# Altium footprint library ArduinoPcbLib.PcbLib: 26 footprints (part 2 of 2)
Each footprint in its own frame and in the unit in brackets; x right, y up, seen from the top. Pads: shape width x height; smd on the part's side, far side on the other; paste and mask are expansions set on the pad; w line width, h text height; cw(c..) or ccw(c..) is an arc to the next point about the centre after c.
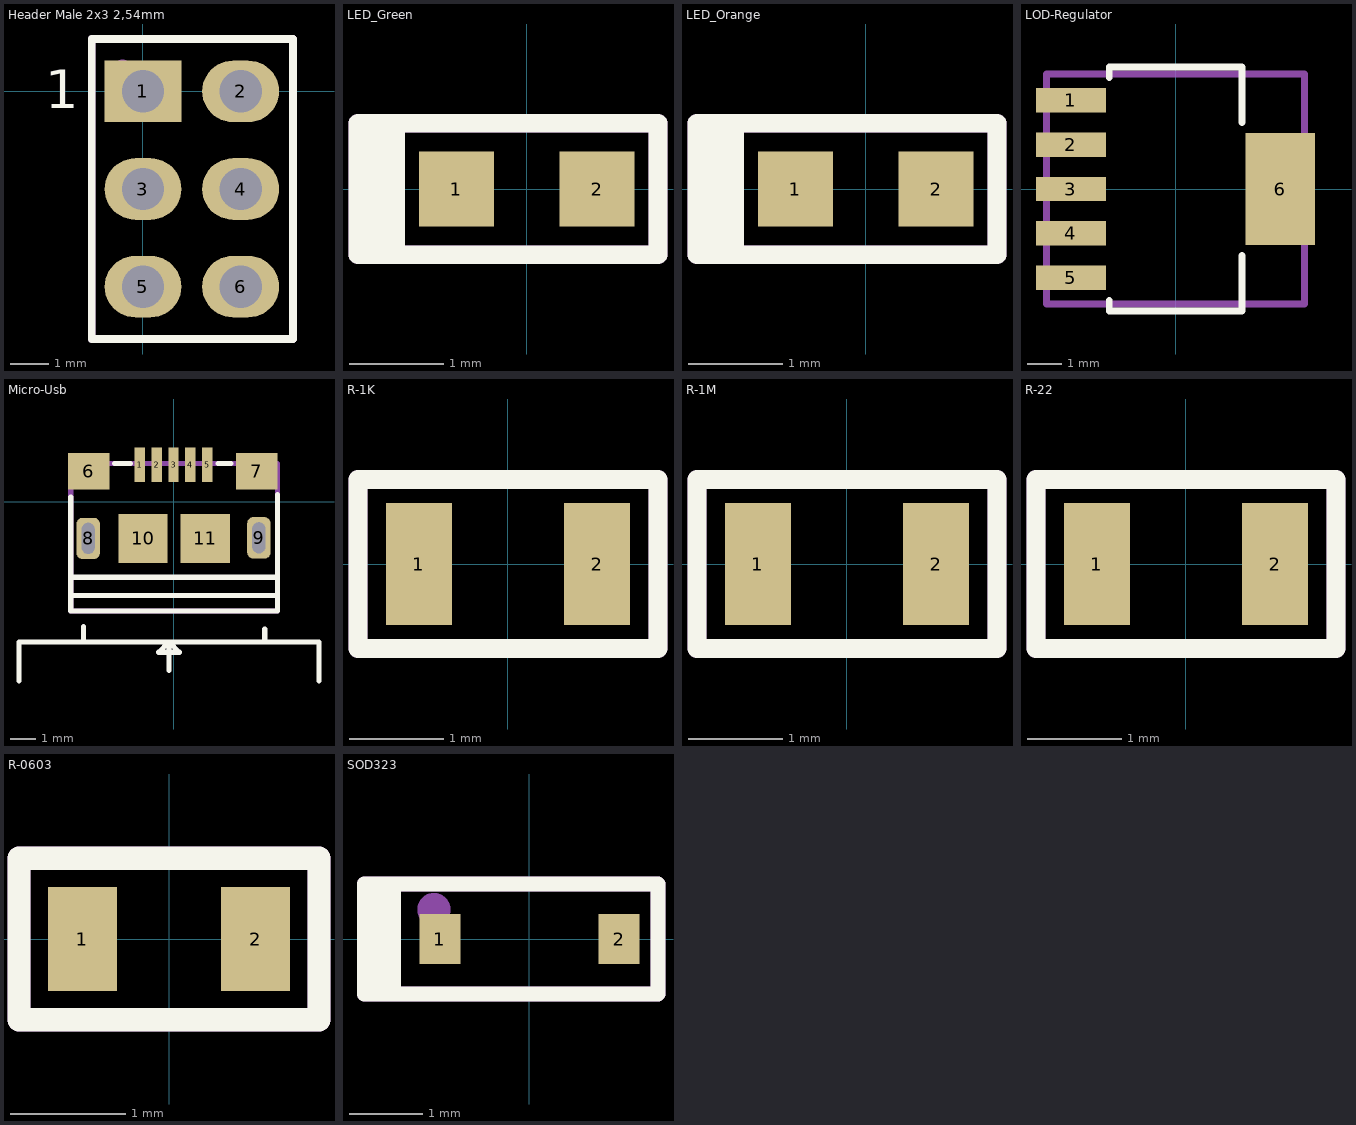
[diagram p1: the footprints below, top view; thin cyan lines are the x and y axes]

## Header Male 2x3 2,54mm [mm]
pads (6):
  rect 2x1.6 hole 1.1: 1(0,0)
  oval 2x1.6 hole 1.1: 2(2.54,0) 3(0,-2.54) 4(2.54,-2.54) 5(0,-5.08) 6(2.54,-5.08)
Top Overlay:
  lines w0.2: -1.33,-6.44 3.9,-6.44 3.9,1.36 -1.33,1.36 -1.33,-6.44
  text "1" at -2.546,-0.446 h1
Mechanical 29:
  circle w0.3: c-0.53,0.56 r0.112
  lines w0.2: -1.33,-6.44 3.9,-6.44 3.9,1.36 -1.33,1.36 -1.33,-6.44
  text "'.Designator'" at -1.476,-3.178 h1.52
3D body "User Library-2x3 TH Pitch 2_54mm.STEP": height 9.21, standoff -3.49, extent -1.27,-6.35 3.81,1.27

## LED_Green [mm]
pads (2):
  rect 0.8x0.8 smd: 1(-0.75,0) 2(0.75,0)
Top Overlay:
  rectangle: -1.8,-0.8 -1.3,0.8
  lines w0.2: -1.8,-0.7 -1.8,0.7 1.4,0.7 1.4,-0.7 -1.8,-0.7
Mechanical 29:
  rectangle: -1.8,-0.8 -1.3,0.8
  lines w0.2: -1.8,-0.7 -1.8,0.7 1.4,0.7 1.4,-0.7 -1.8,-0.7
  text "'.Designator'" at -1.1,-0.3 h0.6
3D body "User Library-SMD LED 0603.step": height 0.4, standoff 0.01, extent -0.8,-0.4 0.8,0.4

## LED_Orange [mm]
pads (2):
  rect 0.8x0.8 smd: 1(-0.75,0) 2(0.75,0)
Top Overlay:
  rectangle: -1.8,-0.8 -1.3,0.8
  lines w0.2: -1.8,-0.7 1.4,-0.7 1.4,0.7 -1.8,0.7 -1.8,-0.7
Mechanical 29:
  rectangle: -1.8,-0.8 -1.3,0.8
  lines w0.2: -1.8,-0.7 1.4,-0.7 1.4,0.7 -1.8,0.7 -1.8,-0.7
  text "'.Designator'" at -1.1,-0.3 h0.6
3D body "User Library-0603 LED_ora.step": height 0.71, standoff 0.01, extent -0.8,-0.4 0.8,0.4

## LOD-Regulator [mm]
pads (6):
  rect 2x0.7 smd: 1(-3,2.54) 2(-3,1.27) 3(-3,0) 4(-3,-1.27) 5(-3,-2.54)
  rect 2x3.2 smd: 6(3,0)
Top Overlay:
  lines w0.2: -1.9,-3.2 -1.9,-3.5 1.9,-3.5 1.9,-1.9 ; -1.9,3.2 -1.9,3.5 1.9,3.5 1.9,1.9
Mechanical 29:
  lines w0.2: -3.7,-3.3 -3.7,3.3 3.7,3.3 3.7,-3.3 -3.7,-3.3
  text "'.Designator'" at -2.746,-0.738 h1.52
3D body "User Library-TPS73701DCQ.step": height 1.78, standoff -0.02, extent -3.631,-3.275 3.63,3.275

## Micro-Usb [mm]
pads (11):
  rect 0.4x1.35 smd mask+0.05: 1(-1.3,1.425) 2(-0.65,1.425) 3(0,1.425) 4(0.65,1.425) 5(1.3,1.425)
  rect 1.6x1.4 smd mask+0.05: 6(-3.275,1.175) 7(3.225,1.175)
  rrect50% 0.9x1.6 hole 0.5 slot 1.2 at 90 deg mask+0.05: 8(-3.3,-1.425) 9(3.3,-1.4)
  rect 1.9x1.9 smd mask+0.05: 10(-1.175,-1.425) 11(1.225,-1.425)
Top Overlay:
  lines w0.2: -5.975,-6.925 -5.975,-6.725 -5.975,-5.425 5.625,-5.425 5.625,-6.525 5.625,-6.925 ; -3.975,-2.925 4.025,-2.925 ; -3.975,0.175 -3.975,-4.225 4.025,-4.225 4.025,0.275 ; -3.475,-5.425 -3.475,-4.825 ; -2.275,1.475 -1.675,1.475 ; -0.275,-5.425 -0.175,-5.425 ; -0.175,-6.525 -0.175,-5.425 ; 0.025,-3.625 -3.975,-3.625 4.025,-3.625 ; 1.725,1.475 2.225,1.475 ; 3.525,-5.425 3.525,-4.925 ; -0.175,-5.425 -0.575,-5.825 0.225,-5.825 -0.175,-5.425
Mechanical 29:
  lines w0.2: -3.975,-4.225 -3.975,1.475 4.025,1.475 4.025,-4.225 -3.975,-4.225
  text "'.Designator'" at -2.721,-1.763 h1.52
3D body "10118193-0001lfc.stp": height 2.87, standoff -0.73, extent -3.928,-4.211 3.928,1.45

## R-1K [mm]
pads (2):
  rect 0.7x1.3 smd: 1(-0.95,0) 2(0.95,0)
Top Overlay:
  lines w0.2: -1.6,-0.9 -1.6,0.9 1.6,0.9 1.6,-0.9 -1.6,-0.9
Mechanical 29:
  lines w0.2: -1.6,-0.9 -1.6,0.9 1.6,0.9 1.6,-0.9 -1.6,-0.9
  text "'.Designator'" at -1.1,-0.3 h0.6
3D body "User Library-CR2012-0805.step": height 0.61, standoff 0.01, extent -1,-0.625 1,0.625

## R-1M [mm]
pads (2):
  rect 0.7x1.3 smd: 1(-0.95,0) 2(0.95,0)
Top Overlay:
  lines w0.2: -1.6,-0.9 -1.6,0.9 1.6,0.9 1.6,-0.9 -1.6,-0.9
Mechanical 29:
  lines w0.2: -1.6,-0.9 -1.6,0.9 1.6,0.9 1.6,-0.9 -1.6,-0.9
  text "'.Designator'" at -1.1,-0.3 h0.6
3D body "User Library-CR2012-0805.step": height 0.61, standoff 0.01, extent -1,-0.625 1,0.625

## R-22 [mm]
pads (2):
  rect 0.7x1.3 smd: 1(-0.95,0) 2(0.95,0)
Top Overlay:
  lines w0.2: -1.6,-0.9 1.6,-0.9 1.6,0.9 -1.6,0.9 -1.6,-0.9
Mechanical 29:
  lines w0.2: -1.6,-0.9 1.6,-0.9 1.6,0.9 -1.6,0.9 -1.6,-0.9
  text "'.Designator'" at -1.1,-0.3 h0.6
3D body "User Library-CR2012-0805.step": height 0.61, standoff 0.01, extent -1,-0.625 1,0.625

## R-0603 [mm]
pads (2):
  rect 0.6x0.9 smd: 1(-0.75,0) 2(0.75,0)
Top Overlay:
  lines w0.2: -1.3,-0.7 -1.3,0.7 1.3,0.7 1.3,-0.7 -1.3,-0.7
Mechanical 29:
  lines w0.2: -1.3,-0.7 -1.3,0.7 1.3,0.7 1.3,-0.7 -1.3,-0.7
  text "'.Designator'" at -1.1,-0.2 h0.6
3D body "R0603.step": height 0.81, standoff 0.01, extent -0.825,-0.415 0.775,0.425

## SOD323 [mil]
pads (2):
  rect 22x27 smd: 1(-48,0) 2(48,0)
Top Overlay:
  rectangle: -91.88,-29.53 -68.9,26.09
  rectangle: -91.88,-29.53 -68.9,26.09
  lines w7.87: -88.58,-29.53 68.9,-29.53 ; -88.58,-29.53 -88.58,29.53 ; -88.58,-29.53 68.9,-29.53 ; -88.58,-29.53 -88.58,29.53 ; -88.58,29.53 68.9,29.53 ; -88.58,29.53 68.9,29.53 ; 68.9,-29.53 68.9,29.53 ; 68.9,-29.53 68.9,29.53
Mechanical 29:
  circle w10: c-51.18,15.75 r3.94
  rectangle: -91.88,-29.53 -68.9,26.09
  lines w7.87: -88.58,-29.53 68.9,-29.53 68.9,29.53 -88.58,29.53 -88.58,-29.53
  text "'.Designator'" at -68.9,-20.35 h39.37
3D body "User Library-SOD323.step": height 39.48, standoff 0.5, extent -49.21,-24.6 49.21,24.61